# Altium footprint library Treetap7c.PcbLib: 33 footprints (part 3 of 3)
Each footprint in its own frame and in the unit in brackets; x right, y up, seen from the top. Pads: shape width x height; smd on the part's side, far side on the other; paste and mask are expansions set on the pad; w line width, h text height; cw(c..) or ccw(c..) is an arc to the next point about the centre after c.
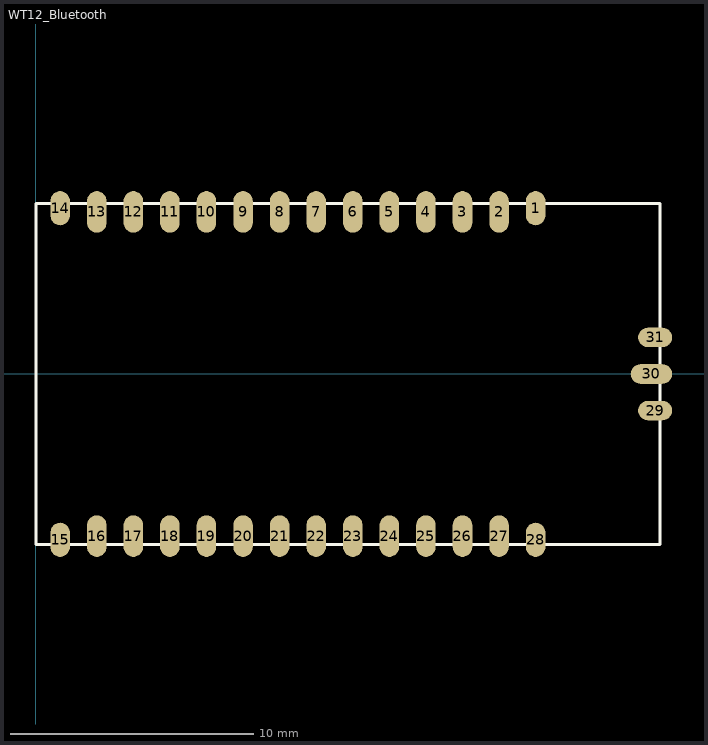
[diagram p2: the footprint, top view; thin cyan lines are the x and y axes]

## WT12_Bluetooth [mm] "WT12 Bluetooth Module"
height 2.4
pads (31):
  oval 0.8x1.4 smd: 1(20.5,6.8) 14(1,6.8) 15(1,-6.8) 28(20.5,-6.8)
  oval 0.8x1.7 smd: 2(19,6.65) 3(17.5,6.65) 4(16,6.65) 5(14.5,6.65) 6(13,6.65) 7(11.5,6.65) 8(10,6.65) 9(8.5,6.65) 10(7,6.65) 11(5.5,6.65) 12(4,6.65) 13(2.5,6.65) 16(2.5,-6.65) 17(4,-6.65) 18(5.5,-6.65) 19(7,-6.65) 20(8.5,-6.65) 21(10,-6.65) 22(11.5,-6.65) 23(13,-6.65) 24(14.5,-6.65) 25(16,-6.65) 26(17.5,-6.65) 27(19,-6.65)
  oval 1.4x0.8 smd: 29(25.4,-1.5) 31(25.4,1.5)
  oval 1.7x0.8 smd: 30(25.25,0)
Top Overlay:
  lines w0.127: 0,-7 25.6,-7 25.6,7 0,7 0,0 0,-7